# Altium schematic symbol library OPA454AIDDA.SchLib: 1 symbol
Pins are listed as number, name and electrical type; pins without a type are passive.

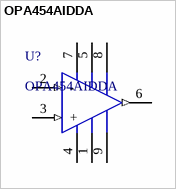
[diagram p0: symbol OPA454AIDDA]

## OPA454AIDDA
designator U?
pins: 1 E/DCOM, 2 - (in), 3 + (in), 4 V- (power), 5 FLAG, 6 OUT (out), 7 V+ (power), 8 E/D, 9 EP